# Altium integrated library pogo_pins.IntLib: 5 symbols
Pins are listed as number, name and electrical type; pins without a type are passive.

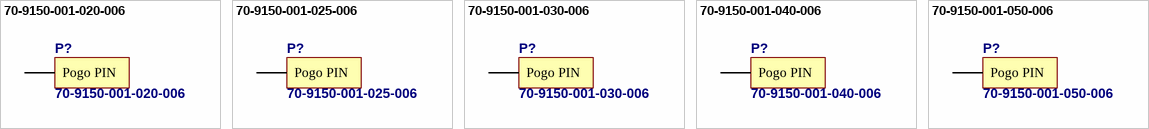
[diagram p0: symbols 70-9150-001-020-006 to 70-9150-001-050-006]

## 70-9150-001-020-006
designator P?
1.90-2.30mm Single Contact Pogo Pin; Supplier 1: Mouser; Supplier 2: Digi-Key; Supplier Part Number 1: 581-709150001050006; Supplier Part Number 2: 709150001050006-ND
footprint 70-9150-001-020-006 (AVX Interconnect 1.9-2.3mm Pogo Pin)
pins: 1 Pogo PIN

## 70-9150-001-025-006
designator P?
2.40-2.80mm Single Contact Pogo Pin; Supplier 1: Mouser; Supplier 2: Digi-Key; Supplier Part Number 1: 581-709150001050006; Supplier Part Number 2: 709150001050006-ND
footprint 70-9150-001-025-006 (AVX Interconnect 2.4-2.8mm Pogo Pin)
pins: 1 Pogo PIN

## 70-9150-001-030-006
designator P?
2.90-3.40mm Single Contact Pogo Pin; Supplier 1: Mouser; Supplier 2: Digi-Key; Supplier Part Number 1: 581-709150001050006; Supplier Part Number 2: 709150001050006-ND
footprint 70-9150-001-030-006 (AVX Interconnect 2.9-3.4mm Pogo Pin)
pins: 1 Pogo PIN

## 70-9150-001-040-006
designator P?
3.90-4.50mm Single Contact Pogo Pin; Supplier 1: Mouser; Supplier 2: Digi-Key; Supplier Part Number 1: 581-709150001050006; Supplier Part Number 2: 709150001050006-ND
footprint 70-9150-001-040-006 (AVX Interconnect 3.9-4.5mm Pogo Pin)
pins: 1 Pogo PIN

## 70-9150-001-050-006
designator P?
4.90-5.50mm Single Contact Pogo Pin; Supplier 1: Mouser; Supplier 2: Digi-Key; Supplier Part Number 1: 581-709150001050006; Supplier Part Number 2: 709150001050006-ND
footprint 70-9150-001-050-006 (AVX Interconnect 4.9-5.5mm Pogo Pin)
pins: 1 Pogo PIN